# Altium integrated library Maxim Sensors.IntLib: 1171 symbols (part 38 of 61)
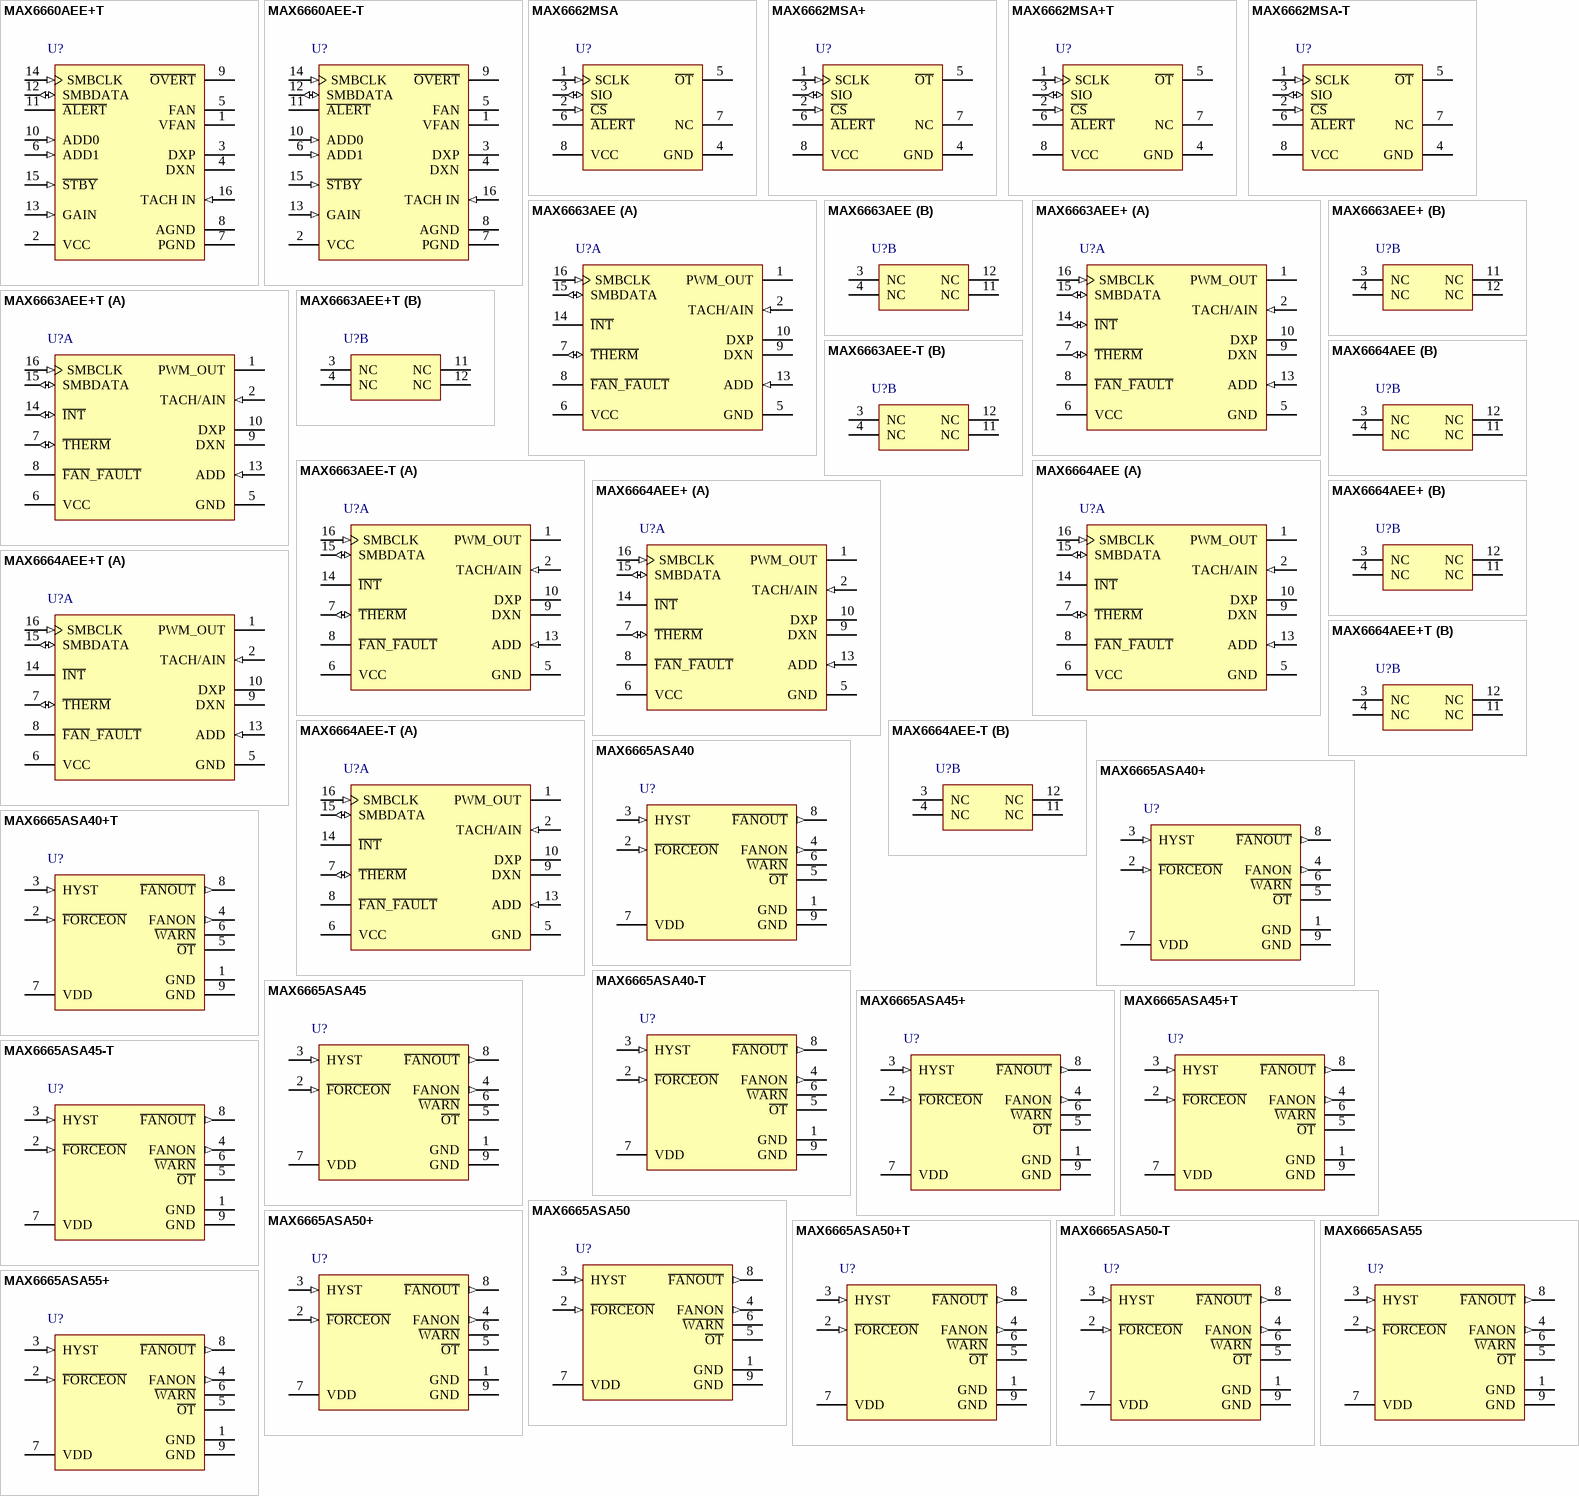
[diagram p70: symbols MAX6660AEE+T to MAX6665ASA55+]

## MAX6665ASA40+T
designator U?
Fan Controller / Driver with Factory-Programmed Temperature Thresholds, -40 to 125 degC, 8-Pin SOIC (S8E+14), Pb-Free, Tape and Reel; Generic Part Number: MAX6665; PartNumber: MAX6665ASA40+T; Fan Cntrl.: Linear; Fan Controller Functions: Temperature Switch/Temperature Comparator; Interface: Logic; DatasheetVersion: Rev. 0; PackageVersion: Rev. E, 01/2009; PackageReference: S8E+14; PackageDescription: 8-Pin Small-Outline IC, Narrow, Body 3.9 x 4.89 mm, Exposed Pad 2.945 x 2.26 mm, Pitch 1.27 mm; Supplier 1: Digi-Key; Supplier Part Number 1: MAX6665ASA40+T-ND; Supplier 2: Mouser; Supplier Part Number 2: 700-MAX6665ASA40T; Packing: Tape and Reel; Mounting Technology: Surface Mount; Code_JEDEC: MS-012; ComponentLink1Description: Manufacturer URL; ComponentLink1URL: http://www.maximintegrated.com/; ComponentLink2Description: Datasheet; ComponentLink2URL: http://datasheets.maximintegrated.com/en/ds/MAX6665.pdf; ComponentLink3Description: Package Specification; ComponentLink3URL: http://pdfserv.maximintegrated.com/package_dwgs/21-0111.PDF
footprint MAXM-S8E+14_N (SOIC, 8-Leads, Body 4.89x3.9mm, Pitch 1.27mm, Thermal Pad 2.945x2.26mm, IPC Medium Density)
footprint MAXM-S8E+14_L (SOIC, 8-Leads, Body 4.89x3.9mm, Pitch 1.27mm, Thermal Pad 2.945x2.26mm, IPC High Density)
footprint MAXM-S8E+14_M (SOIC, 8-Leads, Body 4.89x3.9mm, Pitch 1.27mm, Thermal Pad 2.945x2.26mm, IPC Low Density)
pins: 1 GND (power) "Ground", 2 ~{FORCEON} (in) "Force Fan On Input. Set F\O\R\C\E\O\N\ low to force the fan switch on. Set F\O\R\C\E\O\N\ high for normal operation.", 3 HYST (in) "Three-State Hysteresis Input. Connect HYST to VDD for 8degC, GND for 4degC, and leave HYST unconnected for 1degreesC hysteresis.", 4 FANON (out) "Fan-On Indicator Output. Push-pull output. FANON is high when the fan switch is on. FANON is low when the fan switch is off.", 5 ~{OT} (oc) "Overtemperature Output. Active-low when the temperature is 30degC above the fan threshold. Open-drain output, requires resistive pullup.", 6 ~{WARN} (oc) "Overtemperature Warning Output. Active-low when the temperature is 15degC above the fan threshold. Open-drain output, requires resistive pullup.", 7 VDD (power) "Supply Voltage. Bypass with a 1uF capacitor to GND as close to VDD pin as possible.", 8 ~{FANOUT} (out) "Fan-Switch (Driver) Output. Connect to the low side of a fan.", 9 GND (power) "Ground"

## MAX6665ASA40-T
designator U?
Fan Controller / Driver with Factory-Programmed Temperature Thresholds, -40 to 125 degC, 8-Pin SOIC (S8E-14), Tape and Reel; Generic Part Number: MAX6665; PartNumber: MAX6665ASA40-T; Fan Cntrl.: Linear; Fan Controller Functions: Temperature Switch/Temperature Comparator; Interface: Logic; DatasheetVersion: Rev. 0; PackageVersion: Rev. E, 01/2009; PackageReference: S8E-14; PackageDescription: 8-Pin Small-Outline IC, Narrow, Body 3.9 x 4.89 mm, Exposed Pad 2.945 x 2.26 mm, Pitch 1.27 mm; Supplier 1: Mouser; Supplier Part Number 1: N/A; Packing: Tape and Reel; Mounting Technology: Surface Mount; Code_JEDEC: MS-012; ComponentLink1Description: Manufacturer URL; ComponentLink1URL: http://www.maximintegrated.com/; ComponentLink2Description: Datasheet; ComponentLink2URL: http://datasheets.maximintegrated.com/en/ds/MAX6665.pdf; ComponentLink3Description: Package Specification; ComponentLink3URL: http://pdfserv.maximintegrated.com/package_dwgs/21-0111.PDF
footprint MAXM-S8E-14_N (SOIC, 8-Leads, Body 4.89x3.9mm, Pitch 1.27mm, Thermal Pad 2.945x2.26mm, IPC Medium Density)
footprint MAXM-S8E-14_L (SOIC, 8-Leads, Body 4.89x3.9mm, Pitch 1.27mm, Thermal Pad 2.945x2.26mm, IPC High Density)
footprint MAXM-S8E-14_M (SOIC, 8-Leads, Body 4.89x3.9mm, Pitch 1.27mm, Thermal Pad 2.945x2.26mm, IPC Low Density)
pins: 1 GND (power) "Ground", 2 ~{FORCEON} (in) "Force Fan On Input. Set F\O\R\C\E\O\N\ low to force the fan switch on. Set F\O\R\C\E\O\N\ high for normal operation.", 3 HYST (in) "Three-State Hysteresis Input. Connect HYST to VDD for 8degC, GND for 4degC, and leave HYST unconnected for 1degreesC hysteresis.", 4 FANON (out) "Fan-On Indicator Output. Push-pull output. FANON is high when the fan switch is on. FANON is low when the fan switch is off.", 5 ~{OT} (oc) "Overtemperature Output. Active-low when the temperature is 30degC above the fan threshold. Open-drain output, requires resistive pullup.", 6 ~{WARN} (oc) "Overtemperature Warning Output. Active-low when the temperature is 15degC above the fan threshold. Open-drain output, requires resistive pullup.", 7 VDD (power) "Supply Voltage. Bypass with a 1uF capacitor to GND as close to VDD pin as possible.", 8 ~{FANOUT} (out) "Fan-Switch (Driver) Output. Connect to the low side of a fan.", 9 GND (power) "Ground"

## MAX6665ASA45
designator U?
Fan Controller / Driver with Factory-Programmed Temperature Thresholds, -40 to 125 degC, 8-Pin SOIC (S8E-14); Generic Part Number: MAX6665; PartNumber: MAX6665ASA45; Fan Cntrl.: Linear; Fan Controller Functions: Temperature Switch/Temperature Comparator; Interface: Logic; DatasheetVersion: Rev. 0; PackageVersion: Rev. E, 01/2009; PackageReference: S8E-14; PackageDescription: 8-Pin Small-Outline IC, Narrow, Body 3.9 x 4.89 mm, Exposed Pad 2.945 x 2.26 mm, Pitch 1.27 mm; Supplier 1: Mouser; Supplier Part Number 1: N/A; Mounting Technology: Surface Mount; Code_JEDEC: MS-012; ComponentLink1Description: Manufacturer URL; ComponentLink1URL: http://www.maximintegrated.com/; ComponentLink2Description: Datasheet; ComponentLink2URL: http://datasheets.maximintegrated.com/en/ds/MAX6665.pdf; ComponentLink3Description: Package Specification; ComponentLink3URL: http://pdfserv.maximintegrated.com/package_dwgs/21-0111.PDF
footprint MAXM-S8E-14_N (SOIC, 8-Leads, Body 4.89x3.9mm, Pitch 1.27mm, Thermal Pad 2.945x2.26mm, IPC Medium Density)
footprint MAXM-S8E-14_L (SOIC, 8-Leads, Body 4.89x3.9mm, Pitch 1.27mm, Thermal Pad 2.945x2.26mm, IPC High Density)
footprint MAXM-S8E-14_M (SOIC, 8-Leads, Body 4.89x3.9mm, Pitch 1.27mm, Thermal Pad 2.945x2.26mm, IPC Low Density)
pins: 1 GND (power) "Ground", 2 ~{FORCEON} (in) "Force Fan On Input. Set F\O\R\C\E\O\N\ low to force the fan switch on. Set F\O\R\C\E\O\N\ high for normal operation.", 3 HYST (in) "Three-State Hysteresis Input. Connect HYST to VDD for 8degC, GND for 4degC, and leave HYST unconnected for 1degreesC hysteresis.", 4 FANON (out) "Fan-On Indicator Output. Push-pull output. FANON is high when the fan switch is on. FANON is low when the fan switch is off.", 5 ~{OT} (oc) "Overtemperature Output. Active-low when the temperature is 30degC above the fan threshold. Open-drain output, requires resistive pullup.", 6 ~{WARN} (oc) "Overtemperature Warning Output. Active-low when the temperature is 15degC above the fan threshold. Open-drain output, requires resistive pullup.", 7 VDD (power) "Supply Voltage. Bypass with a 1uF capacitor to GND as close to VDD pin as possible.", 8 ~{FANOUT} (out) "Fan-Switch (Driver) Output. Connect to the low side of a fan.", 9 GND (power) "Ground"

## MAX6665ASA45+
designator U?
Fan Controller / Driver with Factory-Programmed Temperature Thresholds, -40 to 125 degC, 8-Pin SOIC (S8E+14), Pb-Free; Generic Part Number: MAX6665; PartNumber: MAX6665ASA45+; Fan Cntrl.: Linear; Fan Controller Functions: Temperature Switch/Temperature Comparator; Interface: Logic; DatasheetVersion: Rev. 0; PackageVersion: Rev. E, 01/2009; PackageReference: S8E+14; PackageDescription: 8-Pin Small-Outline IC, Narrow, Body 3.9 x 4.89 mm, Exposed Pad 2.945 x 2.26 mm, Pitch 1.27 mm; Supplier 1: Digi-Key; Supplier Part Number 1: MAX6665ASA45+-ND; Supplier 2: Mouser; Supplier Part Number 2: 700-MAX6665ASA45; Mounting Technology: Surface Mount; Code_JEDEC: MS-012; ComponentLink1Description: Manufacturer URL; ComponentLink1URL: http://www.maximintegrated.com/; ComponentLink2Description: Datasheet; ComponentLink2URL: http://datasheets.maximintegrated.com/en/ds/MAX6665.pdf; ComponentLink3Description: Package Specification; ComponentLink3URL: http://pdfserv.maximintegrated.com/package_dwgs/21-0111.PDF
footprint MAXM-S8E+14_N (SOIC, 8-Leads, Body 4.89x3.9mm, Pitch 1.27mm, Thermal Pad 2.945x2.26mm, IPC Medium Density)
footprint MAXM-S8E+14_L (SOIC, 8-Leads, Body 4.89x3.9mm, Pitch 1.27mm, Thermal Pad 2.945x2.26mm, IPC High Density)
footprint MAXM-S8E+14_M (SOIC, 8-Leads, Body 4.89x3.9mm, Pitch 1.27mm, Thermal Pad 2.945x2.26mm, IPC Low Density)
pins: 1 GND (power) "Ground", 2 ~{FORCEON} (in) "Force Fan On Input. Set F\O\R\C\E\O\N\ low to force the fan switch on. Set F\O\R\C\E\O\N\ high for normal operation.", 3 HYST (in) "Three-State Hysteresis Input. Connect HYST to VDD for 8degC, GND for 4degC, and leave HYST unconnected for 1degreesC hysteresis.", 4 FANON (out) "Fan-On Indicator Output. Push-pull output. FANON is high when the fan switch is on. FANON is low when the fan switch is off.", 5 ~{OT} (oc) "Overtemperature Output. Active-low when the temperature is 30degC above the fan threshold. Open-drain output, requires resistive pullup.", 6 ~{WARN} (oc) "Overtemperature Warning Output. Active-low when the temperature is 15degC above the fan threshold. Open-drain output, requires resistive pullup.", 7 VDD (power) "Supply Voltage. Bypass with a 1uF capacitor to GND as close to VDD pin as possible.", 8 ~{FANOUT} (out) "Fan-Switch (Driver) Output. Connect to the low side of a fan.", 9 GND (power) "Ground"

## MAX6665ASA45+T
designator U?
Fan Controller / Driver with Factory-Programmed Temperature Thresholds, -40 to 125 degC, 8-Pin SOIC (S8E+14), Pb-Free, Tape and Reel; Generic Part Number: MAX6665; PartNumber: MAX6665ASA45+T; Fan Cntrl.: Linear; Fan Controller Functions: Temperature Switch/Temperature Comparator; Interface: Logic; DatasheetVersion: Rev. 0; PackageVersion: Rev. E, 01/2009; PackageReference: S8E+14; PackageDescription: 8-Pin Small-Outline IC, Narrow, Body 3.9 x 4.89 mm, Exposed Pad 2.945 x 2.26 mm, Pitch 1.27 mm; Supplier 1: Digi-Key; Supplier Part Number 1: MAX6665ASA45+TTR-ND; Supplier 2: Digi-Key; Supplier Part Number 2: MAX6665ASA45+TCT-ND; Supplier 3: Digi-Key; Supplier Part Number 3: MAX6665ASA45+TDKR-ND; Supplier 4: Mouser; Supplier Part Number 4: 700-MAX6665ASA45T; Packing: Tape and Reel; Mounting Technology: Surface Mount; Code_JEDEC: MS-012; ComponentLink1Description: Manufacturer URL; ComponentLink1URL: http://www.maximintegrated.com/; ComponentLink2Description: Datasheet; ComponentLink2URL: http://datasheets.maximintegrated.com/en/ds/MAX6665.pdf; ComponentLink3Description: Package Specification; ComponentLink3URL: http://pdfserv.maximintegrated.com/package_dwgs/21-0111.PDF
footprint MAXM-S8E+14_N (SOIC, 8-Leads, Body 4.89x3.9mm, Pitch 1.27mm, Thermal Pad 2.945x2.26mm, IPC Medium Density)
footprint MAXM-S8E+14_L (SOIC, 8-Leads, Body 4.89x3.9mm, Pitch 1.27mm, Thermal Pad 2.945x2.26mm, IPC High Density)
footprint MAXM-S8E+14_M (SOIC, 8-Leads, Body 4.89x3.9mm, Pitch 1.27mm, Thermal Pad 2.945x2.26mm, IPC Low Density)
pins: 1 GND (power) "Ground", 2 ~{FORCEON} (in) "Force Fan On Input. Set F\O\R\C\E\O\N\ low to force the fan switch on. Set F\O\R\C\E\O\N\ high for normal operation.", 3 HYST (in) "Three-State Hysteresis Input. Connect HYST to VDD for 8degC, GND for 4degC, and leave HYST unconnected for 1degreesC hysteresis.", 4 FANON (out) "Fan-On Indicator Output. Push-pull output. FANON is high when the fan switch is on. FANON is low when the fan switch is off.", 5 ~{OT} (oc) "Overtemperature Output. Active-low when the temperature is 30degC above the fan threshold. Open-drain output, requires resistive pullup.", 6 ~{WARN} (oc) "Overtemperature Warning Output. Active-low when the temperature is 15degC above the fan threshold. Open-drain output, requires resistive pullup.", 7 VDD (power) "Supply Voltage. Bypass with a 1uF capacitor to GND as close to VDD pin as possible.", 8 ~{FANOUT} (out) "Fan-Switch (Driver) Output. Connect to the low side of a fan.", 9 GND (power) "Ground"

## MAX6665ASA45-T
designator U?
Fan Controller / Driver with Factory-Programmed Temperature Thresholds, -40 to 125 degC, 8-Pin SOIC (S8E-14), Tape and Reel; Generic Part Number: MAX6665; PartNumber: MAX6665ASA45-T; Fan Cntrl.: Linear; Fan Controller Functions: Temperature Switch/Temperature Comparator; Interface: Logic; DatasheetVersion: Rev. 0; PackageVersion: Rev. E, 01/2009; PackageReference: S8E-14; PackageDescription: 8-Pin Small-Outline IC, Narrow, Body 3.9 x 4.89 mm, Exposed Pad 2.945 x 2.26 mm, Pitch 1.27 mm; Supplier 1: Mouser; Supplier Part Number 1: N/A; Packing: Tape and Reel; Mounting Technology: Surface Mount; Code_JEDEC: MS-012; ComponentLink1Description: Manufacturer URL; ComponentLink1URL: http://www.maximintegrated.com/; ComponentLink2Description: Datasheet; ComponentLink2URL: http://datasheets.maximintegrated.com/en/ds/MAX6665.pdf; ComponentLink3Description: Package Specification; ComponentLink3URL: http://pdfserv.maximintegrated.com/package_dwgs/21-0111.PDF
footprint MAXM-S8E-14_N (SOIC, 8-Leads, Body 4.89x3.9mm, Pitch 1.27mm, Thermal Pad 2.945x2.26mm, IPC Medium Density)
footprint MAXM-S8E-14_L (SOIC, 8-Leads, Body 4.89x3.9mm, Pitch 1.27mm, Thermal Pad 2.945x2.26mm, IPC High Density)
footprint MAXM-S8E-14_M (SOIC, 8-Leads, Body 4.89x3.9mm, Pitch 1.27mm, Thermal Pad 2.945x2.26mm, IPC Low Density)
pins: 1 GND (power) "Ground", 2 ~{FORCEON} (in) "Force Fan On Input. Set F\O\R\C\E\O\N\ low to force the fan switch on. Set F\O\R\C\E\O\N\ high for normal operation.", 3 HYST (in) "Three-State Hysteresis Input. Connect HYST to VDD for 8degC, GND for 4degC, and leave HYST unconnected for 1degreesC hysteresis.", 4 FANON (out) "Fan-On Indicator Output. Push-pull output. FANON is high when the fan switch is on. FANON is low when the fan switch is off.", 5 ~{OT} (oc) "Overtemperature Output. Active-low when the temperature is 30degC above the fan threshold. Open-drain output, requires resistive pullup.", 6 ~{WARN} (oc) "Overtemperature Warning Output. Active-low when the temperature is 15degC above the fan threshold. Open-drain output, requires resistive pullup.", 7 VDD (power) "Supply Voltage. Bypass with a 1uF capacitor to GND as close to VDD pin as possible.", 8 ~{FANOUT} (out) "Fan-Switch (Driver) Output. Connect to the low side of a fan.", 9 GND (power) "Ground"

## MAX6665ASA50
designator U?
Fan Controller / Driver with Factory-Programmed Temperature Thresholds, -40 to 125 degC, 8-Pin SOIC (S8E-14); Generic Part Number: MAX6665; PartNumber: MAX6665ASA50; Fan Cntrl.: Linear; Fan Controller Functions: Temperature Switch/Temperature Comparator; Interface: Logic; DatasheetVersion: Rev. 0; PackageVersion: Rev. E, 01/2009; PackageReference: S8E-14; PackageDescription: 8-Pin Small-Outline IC, Narrow, Body 3.9 x 4.89 mm, Exposed Pad 2.945 x 2.26 mm, Pitch 1.27 mm; Supplier 1: Mouser; Supplier Part Number 1: N/A; Mounting Technology: Surface Mount; Code_JEDEC: MS-012; ComponentLink1Description: Manufacturer URL; ComponentLink1URL: http://www.maximintegrated.com/; ComponentLink2Description: Datasheet; ComponentLink2URL: http://datasheets.maximintegrated.com/en/ds/MAX6665.pdf; ComponentLink3Description: Package Specification; ComponentLink3URL: http://pdfserv.maximintegrated.com/package_dwgs/21-0111.PDF
footprint MAXM-S8E-14_N (SOIC, 8-Leads, Body 4.89x3.9mm, Pitch 1.27mm, Thermal Pad 2.945x2.26mm, IPC Medium Density)
footprint MAXM-S8E-14_L (SOIC, 8-Leads, Body 4.89x3.9mm, Pitch 1.27mm, Thermal Pad 2.945x2.26mm, IPC High Density)
footprint MAXM-S8E-14_M (SOIC, 8-Leads, Body 4.89x3.9mm, Pitch 1.27mm, Thermal Pad 2.945x2.26mm, IPC Low Density)
pins: 1 GND (power) "Ground", 2 ~{FORCEON} (in) "Force Fan On Input. Set F\O\R\C\E\O\N\ low to force the fan switch on. Set F\O\R\C\E\O\N\ high for normal operation.", 3 HYST (in) "Three-State Hysteresis Input. Connect HYST to VDD for 8degC, GND for 4degC, and leave HYST unconnected for 1degreesC hysteresis.", 4 FANON (out) "Fan-On Indicator Output. Push-pull output. FANON is high when the fan switch is on. FANON is low when the fan switch is off.", 5 ~{OT} (oc) "Overtemperature Output. Active-low when the temperature is 30degC above the fan threshold. Open-drain output, requires resistive pullup.", 6 ~{WARN} (oc) "Overtemperature Warning Output. Active-low when the temperature is 15degC above the fan threshold. Open-drain output, requires resistive pullup.", 7 VDD (power) "Supply Voltage. Bypass with a 1uF capacitor to GND as close to VDD pin as possible.", 8 ~{FANOUT} (out) "Fan-Switch (Driver) Output. Connect to the low side of a fan.", 9 GND (power) "Ground"

## MAX6665ASA50+
designator U?
Fan Controller / Driver with Factory-Programmed Temperature Thresholds, -40 to 125 degC, 8-Pin SOIC (S8E+14), Pb-Free; Generic Part Number: MAX6665; PartNumber: MAX6665ASA50+; Fan Cntrl.: Linear; Fan Controller Functions: Temperature Switch/Temperature Comparator; Interface: Logic; DatasheetVersion: Rev. 0; PackageVersion: Rev. E, 01/2009; PackageReference: S8E+14; PackageDescription: 8-Pin Small-Outline IC, Narrow, Body 3.9 x 4.89 mm, Exposed Pad 2.945 x 2.26 mm, Pitch 1.27 mm; Supplier 1: Digi-Key; Supplier Part Number 1: MAX6665ASA50+-ND; Supplier 2: Mouser; Supplier Part Number 2: 700-MAX6665ASA50; Mounting Technology: Surface Mount; Code_JEDEC: MS-012; ComponentLink1Description: Manufacturer URL; ComponentLink1URL: http://www.maximintegrated.com/; ComponentLink2Description: Datasheet; ComponentLink2URL: http://datasheets.maximintegrated.com/en/ds/MAX6665.pdf; ComponentLink3Description: Package Specification; ComponentLink3URL: http://pdfserv.maximintegrated.com/package_dwgs/21-0111.PDF
footprint MAXM-S8E+14_N (SOIC, 8-Leads, Body 4.89x3.9mm, Pitch 1.27mm, Thermal Pad 2.945x2.26mm, IPC Medium Density)
footprint MAXM-S8E+14_L (SOIC, 8-Leads, Body 4.89x3.9mm, Pitch 1.27mm, Thermal Pad 2.945x2.26mm, IPC High Density)
footprint MAXM-S8E+14_M (SOIC, 8-Leads, Body 4.89x3.9mm, Pitch 1.27mm, Thermal Pad 2.945x2.26mm, IPC Low Density)
pins: 1 GND (power) "Ground", 2 ~{FORCEON} (in) "Force Fan On Input. Set F\O\R\C\E\O\N\ low to force the fan switch on. Set F\O\R\C\E\O\N\ high for normal operation.", 3 HYST (in) "Three-State Hysteresis Input. Connect HYST to VDD for 8degC, GND for 4degC, and leave HYST unconnected for 1degreesC hysteresis.", 4 FANON (out) "Fan-On Indicator Output. Push-pull output. FANON is high when the fan switch is on. FANON is low when the fan switch is off.", 5 ~{OT} (oc) "Overtemperature Output. Active-low when the temperature is 30degC above the fan threshold. Open-drain output, requires resistive pullup.", 6 ~{WARN} (oc) "Overtemperature Warning Output. Active-low when the temperature is 15degC above the fan threshold. Open-drain output, requires resistive pullup.", 7 VDD (power) "Supply Voltage. Bypass with a 1uF capacitor to GND as close to VDD pin as possible.", 8 ~{FANOUT} (out) "Fan-Switch (Driver) Output. Connect to the low side of a fan.", 9 GND (power) "Ground"

## MAX6665ASA50+T
designator U?
Fan Controller / Driver with Factory-Programmed Temperature Thresholds, -40 to 125 degC, 8-Pin SOIC (S8E+14), Pb-Free, Tape and Reel; Generic Part Number: MAX6665; PartNumber: MAX6665ASA50+T; Fan Cntrl.: Linear; Fan Controller Functions: Temperature Switch/Temperature Comparator; Interface: Logic; DatasheetVersion: Rev. 0; PackageVersion: Rev. E, 01/2009; PackageReference: S8E+14; PackageDescription: 8-Pin Small-Outline IC, Narrow, Body 3.9 x 4.89 mm, Exposed Pad 2.945 x 2.26 mm, Pitch 1.27 mm; Supplier 1: Digi-Key; Supplier Part Number 1: MAX6665ASA50+T-ND; Supplier 2: Mouser; Supplier Part Number 2: 700-MAX6665ASA50T; Packing: Tape and Reel; Mounting Technology: Surface Mount; Code_JEDEC: MS-012; ComponentLink1Description: Manufacturer URL; ComponentLink1URL: http://www.maximintegrated.com/; ComponentLink2Description: Datasheet; ComponentLink2URL: http://datasheets.maximintegrated.com/en/ds/MAX6665.pdf; ComponentLink3Description: Package Specification; ComponentLink3URL: http://pdfserv.maximintegrated.com/package_dwgs/21-0111.PDF
footprint MAXM-S8E+14_N (SOIC, 8-Leads, Body 4.89x3.9mm, Pitch 1.27mm, Thermal Pad 2.945x2.26mm, IPC Medium Density)
footprint MAXM-S8E+14_L (SOIC, 8-Leads, Body 4.89x3.9mm, Pitch 1.27mm, Thermal Pad 2.945x2.26mm, IPC High Density)
footprint MAXM-S8E+14_M (SOIC, 8-Leads, Body 4.89x3.9mm, Pitch 1.27mm, Thermal Pad 2.945x2.26mm, IPC Low Density)
pins: 1 GND (power) "Ground", 2 ~{FORCEON} (in) "Force Fan On Input. Set F\O\R\C\E\O\N\ low to force the fan switch on. Set F\O\R\C\E\O\N\ high for normal operation.", 3 HYST (in) "Three-State Hysteresis Input. Connect HYST to VDD for 8degC, GND for 4degC, and leave HYST unconnected for 1degreesC hysteresis.", 4 FANON (out) "Fan-On Indicator Output. Push-pull output. FANON is high when the fan switch is on. FANON is low when the fan switch is off.", 5 ~{OT} (oc) "Overtemperature Output. Active-low when the temperature is 30degC above the fan threshold. Open-drain output, requires resistive pullup.", 6 ~{WARN} (oc) "Overtemperature Warning Output. Active-low when the temperature is 15degC above the fan threshold. Open-drain output, requires resistive pullup.", 7 VDD (power) "Supply Voltage. Bypass with a 1uF capacitor to GND as close to VDD pin as possible.", 8 ~{FANOUT} (out) "Fan-Switch (Driver) Output. Connect to the low side of a fan.", 9 GND (power) "Ground"

## MAX6665ASA50-T
designator U?
Fan Controller / Driver with Factory-Programmed Temperature Thresholds, -40 to 125 degC, 8-Pin SOIC (S8E-14), Tape and Reel; Generic Part Number: MAX6665; PartNumber: MAX6665ASA50-T; Fan Cntrl.: Linear; Fan Controller Functions: Temperature Switch/Temperature Comparator; Interface: Logic; DatasheetVersion: Rev. 0; PackageVersion: Rev. E, 01/2009; PackageReference: S8E-14; PackageDescription: 8-Pin Small-Outline IC, Narrow, Body 3.9 x 4.89 mm, Exposed Pad 2.945 x 2.26 mm, Pitch 1.27 mm; Supplier 1: Mouser; Supplier Part Number 1: N/A; Packing: Tape and Reel; Mounting Technology: Surface Mount; Code_JEDEC: MS-012; ComponentLink1Description: Manufacturer URL; ComponentLink1URL: http://www.maximintegrated.com/; ComponentLink2Description: Datasheet; ComponentLink2URL: http://datasheets.maximintegrated.com/en/ds/MAX6665.pdf; ComponentLink3Description: Package Specification; ComponentLink3URL: http://pdfserv.maximintegrated.com/package_dwgs/21-0111.PDF
footprint MAXM-S8E-14_N (SOIC, 8-Leads, Body 4.89x3.9mm, Pitch 1.27mm, Thermal Pad 2.945x2.26mm, IPC Medium Density)
footprint MAXM-S8E-14_L (SOIC, 8-Leads, Body 4.89x3.9mm, Pitch 1.27mm, Thermal Pad 2.945x2.26mm, IPC High Density)
footprint MAXM-S8E-14_M (SOIC, 8-Leads, Body 4.89x3.9mm, Pitch 1.27mm, Thermal Pad 2.945x2.26mm, IPC Low Density)
pins: 1 GND (power) "Ground", 2 ~{FORCEON} (in) "Force Fan On Input. Set F\O\R\C\E\O\N\ low to force the fan switch on. Set F\O\R\C\E\O\N\ high for normal operation.", 3 HYST (in) "Three-State Hysteresis Input. Connect HYST to VDD for 8degC, GND for 4degC, and leave HYST unconnected for 1degreesC hysteresis.", 4 FANON (out) "Fan-On Indicator Output. Push-pull output. FANON is high when the fan switch is on. FANON is low when the fan switch is off.", 5 ~{OT} (oc) "Overtemperature Output. Active-low when the temperature is 30degC above the fan threshold. Open-drain output, requires resistive pullup.", 6 ~{WARN} (oc) "Overtemperature Warning Output. Active-low when the temperature is 15degC above the fan threshold. Open-drain output, requires resistive pullup.", 7 VDD (power) "Supply Voltage. Bypass with a 1uF capacitor to GND as close to VDD pin as possible.", 8 ~{FANOUT} (out) "Fan-Switch (Driver) Output. Connect to the low side of a fan.", 9 GND (power) "Ground"

## MAX6665ASA55
designator U?
Fan Controller / Driver with Factory-Programmed Temperature Thresholds, -40 to 125 degC, 8-Pin SOIC (S8E-14); Generic Part Number: MAX6665; PartNumber: MAX6665ASA55; Fan Cntrl.: Linear; Fan Controller Functions: Temperature Switch/Temperature Comparator; Interface: Logic; DatasheetVersion: Rev. 0; PackageVersion: Rev. E, 01/2009; PackageReference: S8E-14; PackageDescription: 8-Pin Small-Outline IC, Narrow, Body 3.9 x 4.89 mm, Exposed Pad 2.945 x 2.26 mm, Pitch 1.27 mm; Supplier 1: Mouser; Supplier Part Number 1: N/A; Mounting Technology: Surface Mount; Code_JEDEC: MS-012; ComponentLink1Description: Manufacturer URL; ComponentLink1URL: http://www.maximintegrated.com/; ComponentLink2Description: Datasheet; ComponentLink2URL: http://datasheets.maximintegrated.com/en/ds/MAX6665.pdf; ComponentLink3Description: Package Specification; ComponentLink3URL: http://pdfserv.maximintegrated.com/package_dwgs/21-0111.PDF
footprint MAXM-S8E-14_N (SOIC, 8-Leads, Body 4.89x3.9mm, Pitch 1.27mm, Thermal Pad 2.945x2.26mm, IPC Medium Density)
footprint MAXM-S8E-14_L (SOIC, 8-Leads, Body 4.89x3.9mm, Pitch 1.27mm, Thermal Pad 2.945x2.26mm, IPC High Density)
footprint MAXM-S8E-14_M (SOIC, 8-Leads, Body 4.89x3.9mm, Pitch 1.27mm, Thermal Pad 2.945x2.26mm, IPC Low Density)
pins: 1 GND (power) "Ground", 2 ~{FORCEON} (in) "Force Fan On Input. Set F\O\R\C\E\O\N\ low to force the fan switch on. Set F\O\R\C\E\O\N\ high for normal operation.", 3 HYST (in) "Three-State Hysteresis Input. Connect HYST to VDD for 8degC, GND for 4degC, and leave HYST unconnected for 1degreesC hysteresis.", 4 FANON (out) "Fan-On Indicator Output. Push-pull output. FANON is high when the fan switch is on. FANON is low when the fan switch is off.", 5 ~{OT} (oc) "Overtemperature Output. Active-low when the temperature is 30degC above the fan threshold. Open-drain output, requires resistive pullup.", 6 ~{WARN} (oc) "Overtemperature Warning Output. Active-low when the temperature is 15degC above the fan threshold. Open-drain output, requires resistive pullup.", 7 VDD (power) "Supply Voltage. Bypass with a 1uF capacitor to GND as close to VDD pin as possible.", 8 ~{FANOUT} (out) "Fan-Switch (Driver) Output. Connect to the low side of a fan.", 9 GND (power) "Ground"

## MAX6665ASA55+
designator U?
Fan Controller / Driver with Factory-Programmed Temperature Thresholds, -40 to 125 degC, 8-Pin SOIC (S8E+14), Pb-Free; Generic Part Number: MAX6665; PartNumber: MAX6665ASA55+; Fan Cntrl.: Linear; Fan Controller Functions: Temperature Switch/Temperature Comparator; Interface: Logic; DatasheetVersion: Rev. 0; PackageVersion: Rev. E, 01/2009; PackageReference: S8E+14; PackageDescription: 8-Pin Small-Outline IC, Narrow, Body 3.9 x 4.89 mm, Exposed Pad 2.945 x 2.26 mm, Pitch 1.27 mm; Supplier 1: Digi-Key; Supplier Part Number 1: MAX6665ASA55+-ND; Supplier 2: Mouser; Supplier Part Number 2: 700-MAX6665ASA55; Mounting Technology: Surface Mount; Code_JEDEC: MS-012; ComponentLink1Description: Manufacturer URL; ComponentLink1URL: http://www.maximintegrated.com/; ComponentLink2Description: Datasheet; ComponentLink2URL: http://datasheets.maximintegrated.com/en/ds/MAX6665.pdf; ComponentLink3Description: Package Specification; ComponentLink3URL: http://pdfserv.maximintegrated.com/package_dwgs/21-0111.PDF
footprint MAXM-S8E+14_N (SOIC, 8-Leads, Body 4.89x3.9mm, Pitch 1.27mm, Thermal Pad 2.945x2.26mm, IPC Medium Density)
footprint MAXM-S8E+14_L (SOIC, 8-Leads, Body 4.89x3.9mm, Pitch 1.27mm, Thermal Pad 2.945x2.26mm, IPC High Density)
footprint MAXM-S8E+14_M (SOIC, 8-Leads, Body 4.89x3.9mm, Pitch 1.27mm, Thermal Pad 2.945x2.26mm, IPC Low Density)
pins: 1 GND (power) "Ground", 2 ~{FORCEON} (in) "Force Fan On Input. Set F\O\R\C\E\O\N\ low to force the fan switch on. Set F\O\R\C\E\O\N\ high for normal operation.", 3 HYST (in) "Three-State Hysteresis Input. Connect HYST to VDD for 8degC, GND for 4degC, and leave HYST unconnected for 1degreesC hysteresis.", 4 FANON (out) "Fan-On Indicator Output. Push-pull output. FANON is high when the fan switch is on. FANON is low when the fan switch is off.", 5 ~{OT} (oc) "Overtemperature Output. Active-low when the temperature is 30degC above the fan threshold. Open-drain output, requires resistive pullup.", 6 ~{WARN} (oc) "Overtemperature Warning Output. Active-low when the temperature is 15degC above the fan threshold. Open-drain output, requires resistive pullup.", 7 VDD (power) "Supply Voltage. Bypass with a 1uF capacitor to GND as close to VDD pin as possible.", 8 ~{FANOUT} (out) "Fan-Switch (Driver) Output. Connect to the low side of a fan.", 9 GND (power) "Ground"

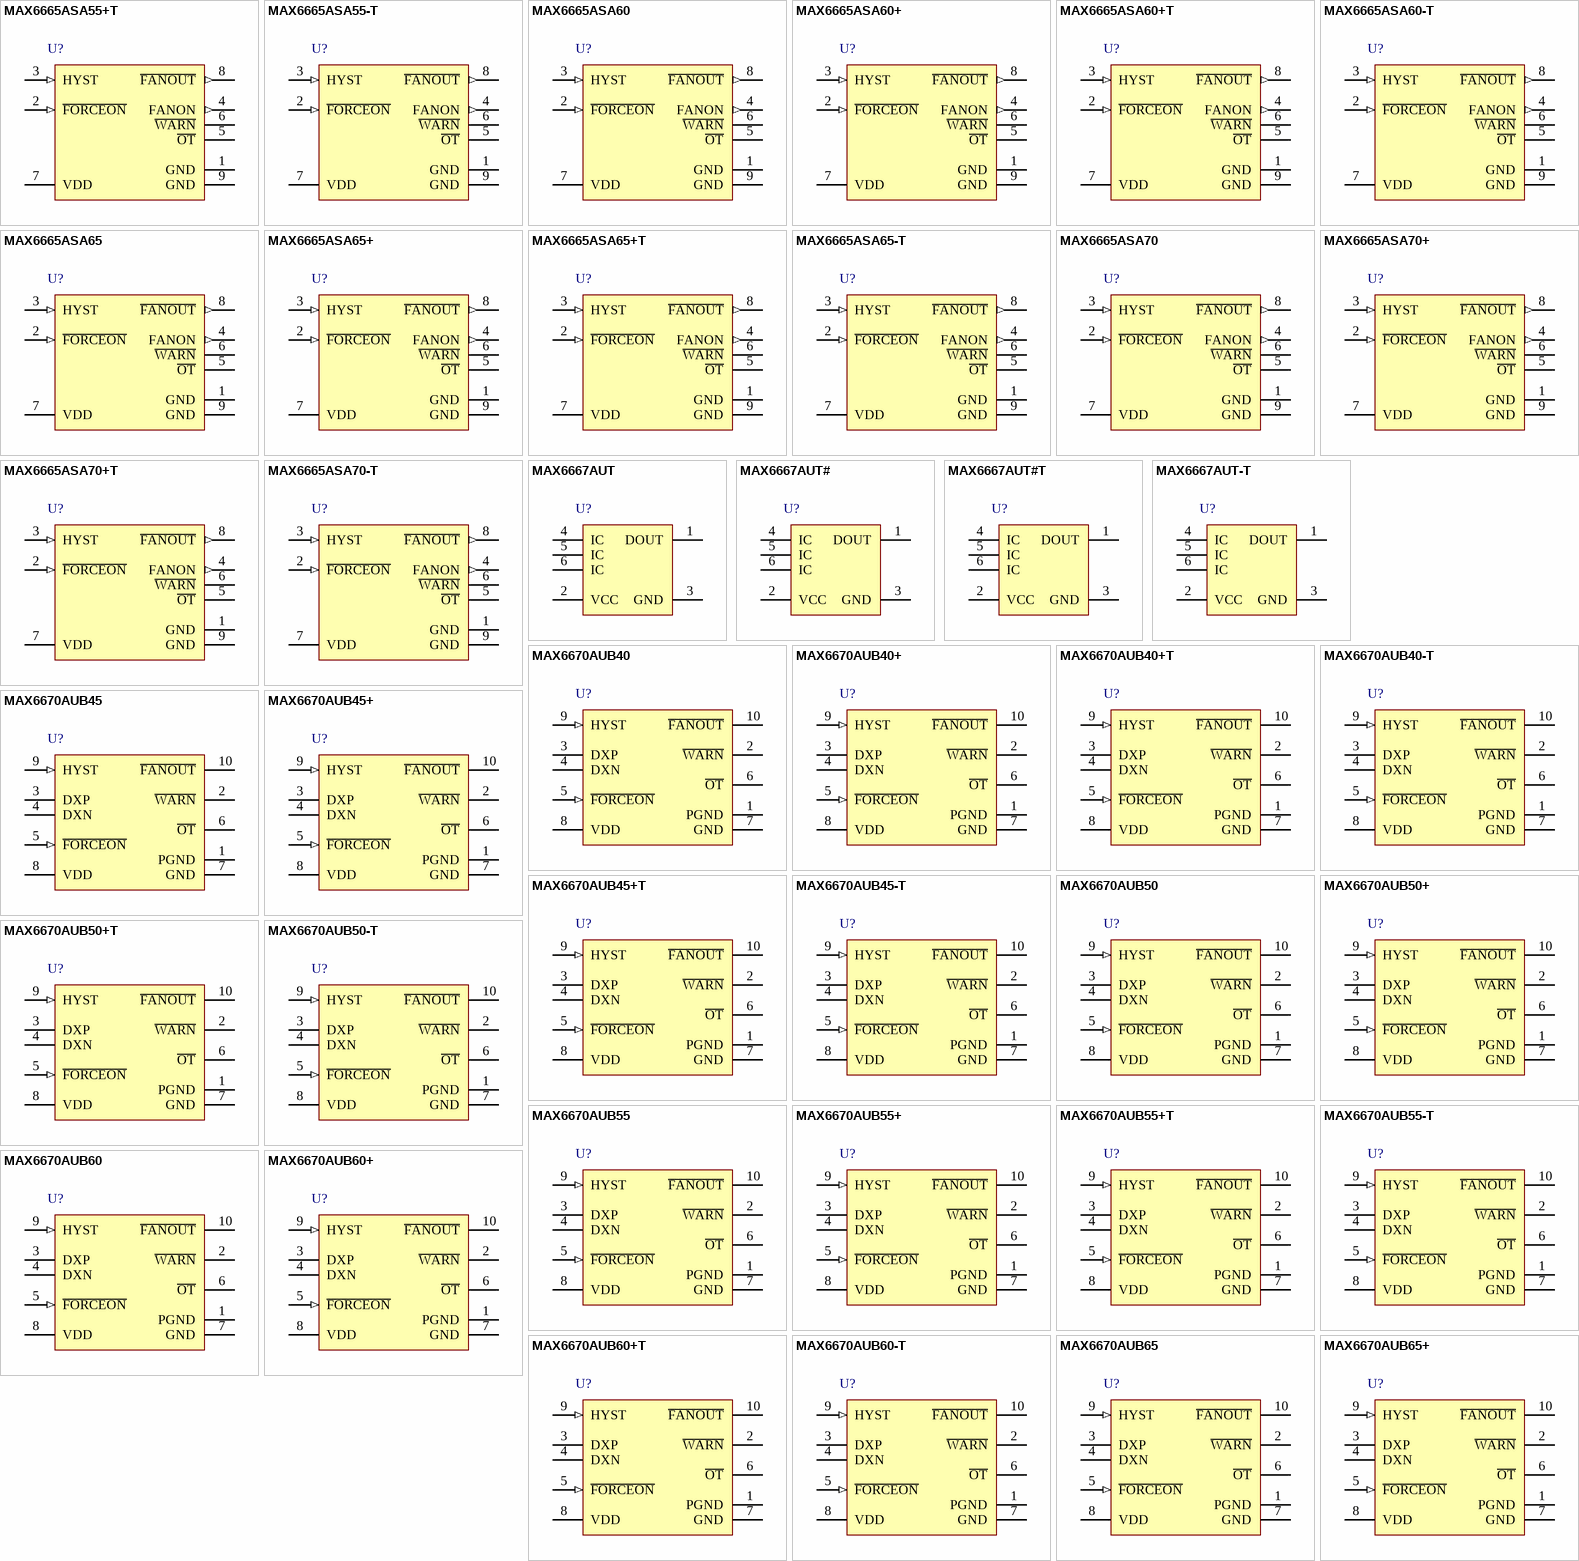
[diagram p22: symbols MAX6665ASA55+T to MAX6670AUB65+]

## MAX6665ASA55+T
designator U?
Fan Controller / Driver with Factory-Programmed Temperature Thresholds, -40 to 125 degC, 8-Pin SOIC (S8E+14), Pb-Free, Tape and Reel; Generic Part Number: MAX6665; PartNumber: MAX6665ASA55+T; Fan Cntrl.: Linear; Fan Controller Functions: Temperature Switch/Temperature Comparator; Interface: Logic; DatasheetVersion: Rev. 0; PackageVersion: Rev. E, 01/2009; PackageReference: S8E+14; PackageDescription: 8-Pin Small-Outline IC, Narrow, Body 3.9 x 4.89 mm, Exposed Pad 2.945 x 2.26 mm, Pitch 1.27 mm; Supplier 1: Digi-Key; Supplier Part Number 1: MAX6665ASA55+T-ND; Supplier 2: Mouser; Supplier Part Number 2: 700-MAX6665ASA55T; Packing: Tape and Reel; Mounting Technology: Surface Mount; Code_JEDEC: MS-012; ComponentLink1Description: Manufacturer URL; ComponentLink1URL: http://www.maximintegrated.com/; ComponentLink2Description: Datasheet; ComponentLink2URL: http://datasheets.maximintegrated.com/en/ds/MAX6665.pdf; ComponentLink3Description: Package Specification; ComponentLink3URL: http://pdfserv.maximintegrated.com/package_dwgs/21-0111.PDF
footprint MAXM-S8E+14_N (SOIC, 8-Leads, Body 4.89x3.9mm, Pitch 1.27mm, Thermal Pad 2.945x2.26mm, IPC Medium Density)
footprint MAXM-S8E+14_L (SOIC, 8-Leads, Body 4.89x3.9mm, Pitch 1.27mm, Thermal Pad 2.945x2.26mm, IPC High Density)
footprint MAXM-S8E+14_M (SOIC, 8-Leads, Body 4.89x3.9mm, Pitch 1.27mm, Thermal Pad 2.945x2.26mm, IPC Low Density)
pins: 1 GND (power) "Ground", 2 ~{FORCEON} (in) "Force Fan On Input. Set F\O\R\C\E\O\N\ low to force the fan switch on. Set F\O\R\C\E\O\N\ high for normal operation.", 3 HYST (in) "Three-State Hysteresis Input. Connect HYST to VDD for 8degC, GND for 4degC, and leave HYST unconnected for 1degreesC hysteresis.", 4 FANON (out) "Fan-On Indicator Output. Push-pull output. FANON is high when the fan switch is on. FANON is low when the fan switch is off.", 5 ~{OT} (oc) "Overtemperature Output. Active-low when the temperature is 30degC above the fan threshold. Open-drain output, requires resistive pullup.", 6 ~{WARN} (oc) "Overtemperature Warning Output. Active-low when the temperature is 15degC above the fan threshold. Open-drain output, requires resistive pullup.", 7 VDD (power) "Supply Voltage. Bypass with a 1uF capacitor to GND as close to VDD pin as possible.", 8 ~{FANOUT} (out) "Fan-Switch (Driver) Output. Connect to the low side of a fan.", 9 GND (power) "Ground"

## MAX6665ASA55-T
designator U?
Fan Controller / Driver with Factory-Programmed Temperature Thresholds, -40 to 125 degC, 8-Pin SOIC (S8E-14), Tape and Reel; Generic Part Number: MAX6665; PartNumber: MAX6665ASA55-T; Fan Cntrl.: Linear; Fan Controller Functions: Temperature Switch/Temperature Comparator; Interface: Logic; DatasheetVersion: Rev. 0; PackageVersion: Rev. E, 01/2009; PackageReference: S8E-14; PackageDescription: 8-Pin Small-Outline IC, Narrow, Body 3.9 x 4.89 mm, Exposed Pad 2.945 x 2.26 mm, Pitch 1.27 mm; Supplier 1: Mouser; Supplier Part Number 1: N/A; Packing: Tape and Reel; Mounting Technology: Surface Mount; Code_JEDEC: MS-012; ComponentLink1Description: Manufacturer URL; ComponentLink1URL: http://www.maximintegrated.com/; ComponentLink2Description: Datasheet; ComponentLink2URL: http://datasheets.maximintegrated.com/en/ds/MAX6665.pdf; ComponentLink3Description: Package Specification; ComponentLink3URL: http://pdfserv.maximintegrated.com/package_dwgs/21-0111.PDF
footprint MAXM-S8E-14_N (SOIC, 8-Leads, Body 4.89x3.9mm, Pitch 1.27mm, Thermal Pad 2.945x2.26mm, IPC Medium Density)
footprint MAXM-S8E-14_L (SOIC, 8-Leads, Body 4.89x3.9mm, Pitch 1.27mm, Thermal Pad 2.945x2.26mm, IPC High Density)
footprint MAXM-S8E-14_M (SOIC, 8-Leads, Body 4.89x3.9mm, Pitch 1.27mm, Thermal Pad 2.945x2.26mm, IPC Low Density)
pins: 1 GND (power) "Ground", 2 ~{FORCEON} (in) "Force Fan On Input. Set F\O\R\C\E\O\N\ low to force the fan switch on. Set F\O\R\C\E\O\N\ high for normal operation.", 3 HYST (in) "Three-State Hysteresis Input. Connect HYST to VDD for 8degC, GND for 4degC, and leave HYST unconnected for 1degreesC hysteresis.", 4 FANON (out) "Fan-On Indicator Output. Push-pull output. FANON is high when the fan switch is on. FANON is low when the fan switch is off.", 5 ~{OT} (oc) "Overtemperature Output. Active-low when the temperature is 30degC above the fan threshold. Open-drain output, requires resistive pullup.", 6 ~{WARN} (oc) "Overtemperature Warning Output. Active-low when the temperature is 15degC above the fan threshold. Open-drain output, requires resistive pullup.", 7 VDD (power) "Supply Voltage. Bypass with a 1uF capacitor to GND as close to VDD pin as possible.", 8 ~{FANOUT} (out) "Fan-Switch (Driver) Output. Connect to the low side of a fan.", 9 GND (power) "Ground"

## MAX6665ASA60
designator U?
Fan Controller / Driver with Factory-Programmed Temperature Thresholds, -40 to 125 degC, 8-Pin SOIC (S8E-14); Generic Part Number: MAX6665; PartNumber: MAX6665ASA60; Fan Cntrl.: Linear; Fan Controller Functions: Temperature Switch/Temperature Comparator; Interface: Logic; DatasheetVersion: Rev. 0; PackageVersion: Rev. E, 01/2009; PackageReference: S8E-14; PackageDescription: 8-Pin Small-Outline IC, Narrow, Body 3.9 x 4.89 mm, Exposed Pad 2.945 x 2.26 mm, Pitch 1.27 mm; Supplier 1: Mouser; Supplier Part Number 1: N/A; Mounting Technology: Surface Mount; Code_JEDEC: MS-012; ComponentLink1Description: Manufacturer URL; ComponentLink1URL: http://www.maximintegrated.com/; ComponentLink2Description: Datasheet; ComponentLink2URL: http://datasheets.maximintegrated.com/en/ds/MAX6665.pdf; ComponentLink3Description: Package Specification; ComponentLink3URL: http://pdfserv.maximintegrated.com/package_dwgs/21-0111.PDF
footprint MAXM-S8E-14_N (SOIC, 8-Leads, Body 4.89x3.9mm, Pitch 1.27mm, Thermal Pad 2.945x2.26mm, IPC Medium Density)
footprint MAXM-S8E-14_L (SOIC, 8-Leads, Body 4.89x3.9mm, Pitch 1.27mm, Thermal Pad 2.945x2.26mm, IPC High Density)
footprint MAXM-S8E-14_M (SOIC, 8-Leads, Body 4.89x3.9mm, Pitch 1.27mm, Thermal Pad 2.945x2.26mm, IPC Low Density)
pins: 1 GND (power) "Ground", 2 ~{FORCEON} (in) "Force Fan On Input. Set F\O\R\C\E\O\N\ low to force the fan switch on. Set F\O\R\C\E\O\N\ high for normal operation.", 3 HYST (in) "Three-State Hysteresis Input. Connect HYST to VDD for 8degC, GND for 4degC, and leave HYST unconnected for 1degreesC hysteresis.", 4 FANON (out) "Fan-On Indicator Output. Push-pull output. FANON is high when the fan switch is on. FANON is low when the fan switch is off.", 5 ~{OT} (oc) "Overtemperature Output. Active-low when the temperature is 30degC above the fan threshold. Open-drain output, requires resistive pullup.", 6 ~{WARN} (oc) "Overtemperature Warning Output. Active-low when the temperature is 15degC above the fan threshold. Open-drain output, requires resistive pullup.", 7 VDD (power) "Supply Voltage. Bypass with a 1uF capacitor to GND as close to VDD pin as possible.", 8 ~{FANOUT} (out) "Fan-Switch (Driver) Output. Connect to the low side of a fan.", 9 GND (power) "Ground"

## MAX6665ASA60+
designator U?
Fan Controller / Driver with Factory-Programmed Temperature Thresholds, -40 to 125 degC, 8-Pin SOIC (S8E+14), Pb-Free; Generic Part Number: MAX6665; PartNumber: MAX6665ASA60+; Fan Cntrl.: Linear; Fan Controller Functions: Temperature Switch/Temperature Comparator; Interface: Logic; DatasheetVersion: Rev. 0; PackageVersion: Rev. E, 01/2009; PackageReference: S8E+14; PackageDescription: 8-Pin Small-Outline IC, Narrow, Body 3.9 x 4.89 mm, Exposed Pad 2.945 x 2.26 mm, Pitch 1.27 mm; Supplier 1: Digi-Key; Supplier Part Number 1: MAX6665ASA60+-ND; Supplier 2: Mouser; Supplier Part Number 2: 700-MAX6665ASA60; Mounting Technology: Surface Mount; Code_JEDEC: MS-012; ComponentLink1Description: Manufacturer URL; ComponentLink1URL: http://www.maximintegrated.com/; ComponentLink2Description: Datasheet; ComponentLink2URL: http://datasheets.maximintegrated.com/en/ds/MAX6665.pdf; ComponentLink3Description: Package Specification; ComponentLink3URL: http://pdfserv.maximintegrated.com/package_dwgs/21-0111.PDF
footprint MAXM-S8E+14_N (SOIC, 8-Leads, Body 4.89x3.9mm, Pitch 1.27mm, Thermal Pad 2.945x2.26mm, IPC Medium Density)
footprint MAXM-S8E+14_L (SOIC, 8-Leads, Body 4.89x3.9mm, Pitch 1.27mm, Thermal Pad 2.945x2.26mm, IPC High Density)
footprint MAXM-S8E+14_M (SOIC, 8-Leads, Body 4.89x3.9mm, Pitch 1.27mm, Thermal Pad 2.945x2.26mm, IPC Low Density)
pins: 1 GND (power) "Ground", 2 ~{FORCEON} (in) "Force Fan On Input. Set F\O\R\C\E\O\N\ low to force the fan switch on. Set F\O\R\C\E\O\N\ high for normal operation.", 3 HYST (in) "Three-State Hysteresis Input. Connect HYST to VDD for 8degC, GND for 4degC, and leave HYST unconnected for 1degreesC hysteresis.", 4 FANON (out) "Fan-On Indicator Output. Push-pull output. FANON is high when the fan switch is on. FANON is low when the fan switch is off.", 5 ~{OT} (oc) "Overtemperature Output. Active-low when the temperature is 30degC above the fan threshold. Open-drain output, requires resistive pullup.", 6 ~{WARN} (oc) "Overtemperature Warning Output. Active-low when the temperature is 15degC above the fan threshold. Open-drain output, requires resistive pullup.", 7 VDD (power) "Supply Voltage. Bypass with a 1uF capacitor to GND as close to VDD pin as possible.", 8 ~{FANOUT} (out) "Fan-Switch (Driver) Output. Connect to the low side of a fan.", 9 GND (power) "Ground"

## MAX6665ASA60+T
designator U?
Fan Controller / Driver with Factory-Programmed Temperature Thresholds, -40 to 125 degC, 8-Pin SOIC (S8E+14), Pb-Free, Tape and Reel; Generic Part Number: MAX6665; PartNumber: MAX6665ASA60+T; Fan Cntrl.: Linear; Fan Controller Functions: Temperature Switch/Temperature Comparator; Interface: Logic; DatasheetVersion: Rev. 0; PackageVersion: Rev. E, 01/2009; PackageReference: S8E+14; PackageDescription: 8-Pin Small-Outline IC, Narrow, Body 3.9 x 4.89 mm, Exposed Pad 2.945 x 2.26 mm, Pitch 1.27 mm; Supplier 1: Digi-Key; Supplier Part Number 1: MAX6665ASA60+T-ND; Supplier 2: Mouser; Supplier Part Number 2: 700-MAX6665ASA60T; Packing: Tape and Reel; Mounting Technology: Surface Mount; Code_JEDEC: MS-012; ComponentLink1Description: Manufacturer URL; ComponentLink1URL: http://www.maximintegrated.com/; ComponentLink2Description: Datasheet; ComponentLink2URL: http://datasheets.maximintegrated.com/en/ds/MAX6665.pdf; ComponentLink3Description: Package Specification; ComponentLink3URL: http://pdfserv.maximintegrated.com/package_dwgs/21-0111.PDF
footprint MAXM-S8E+14_N (SOIC, 8-Leads, Body 4.89x3.9mm, Pitch 1.27mm, Thermal Pad 2.945x2.26mm, IPC Medium Density)
footprint MAXM-S8E+14_L (SOIC, 8-Leads, Body 4.89x3.9mm, Pitch 1.27mm, Thermal Pad 2.945x2.26mm, IPC High Density)
footprint MAXM-S8E+14_M (SOIC, 8-Leads, Body 4.89x3.9mm, Pitch 1.27mm, Thermal Pad 2.945x2.26mm, IPC Low Density)
pins: 1 GND (power) "Ground", 2 ~{FORCEON} (in) "Force Fan On Input. Set F\O\R\C\E\O\N\ low to force the fan switch on. Set F\O\R\C\E\O\N\ high for normal operation.", 3 HYST (in) "Three-State Hysteresis Input. Connect HYST to VDD for 8degC, GND for 4degC, and leave HYST unconnected for 1degreesC hysteresis.", 4 FANON (out) "Fan-On Indicator Output. Push-pull output. FANON is high when the fan switch is on. FANON is low when the fan switch is off.", 5 ~{OT} (oc) "Overtemperature Output. Active-low when the temperature is 30degC above the fan threshold. Open-drain output, requires resistive pullup.", 6 ~{WARN} (oc) "Overtemperature Warning Output. Active-low when the temperature is 15degC above the fan threshold. Open-drain output, requires resistive pullup.", 7 VDD (power) "Supply Voltage. Bypass with a 1uF capacitor to GND as close to VDD pin as possible.", 8 ~{FANOUT} (out) "Fan-Switch (Driver) Output. Connect to the low side of a fan.", 9 GND (power) "Ground"

## MAX6665ASA60-T
designator U?
Fan Controller / Driver with Factory-Programmed Temperature Thresholds, -40 to 125 degC, 8-Pin SOIC (S8E-14), Tape and Reel; Generic Part Number: MAX6665; PartNumber: MAX6665ASA60-T; Fan Cntrl.: Linear; Fan Controller Functions: Temperature Switch/Temperature Comparator; Interface: Logic; DatasheetVersion: Rev. 0; PackageVersion: Rev. E, 01/2009; PackageReference: S8E-14; PackageDescription: 8-Pin Small-Outline IC, Narrow, Body 3.9 x 4.89 mm, Exposed Pad 2.945 x 2.26 mm, Pitch 1.27 mm; Supplier 1: Mouser; Supplier Part Number 1: N/A; Packing: Tape and Reel; Mounting Technology: Surface Mount; Code_JEDEC: MS-012; ComponentLink1Description: Manufacturer URL; ComponentLink1URL: http://www.maximintegrated.com/; ComponentLink2Description: Datasheet; ComponentLink2URL: http://datasheets.maximintegrated.com/en/ds/MAX6665.pdf; ComponentLink3Description: Package Specification; ComponentLink3URL: http://pdfserv.maximintegrated.com/package_dwgs/21-0111.PDF
footprint MAXM-S8E-14_N (SOIC, 8-Leads, Body 4.89x3.9mm, Pitch 1.27mm, Thermal Pad 2.945x2.26mm, IPC Medium Density)
footprint MAXM-S8E-14_L (SOIC, 8-Leads, Body 4.89x3.9mm, Pitch 1.27mm, Thermal Pad 2.945x2.26mm, IPC High Density)
footprint MAXM-S8E-14_M (SOIC, 8-Leads, Body 4.89x3.9mm, Pitch 1.27mm, Thermal Pad 2.945x2.26mm, IPC Low Density)
pins: 1 GND (power) "Ground", 2 ~{FORCEON} (in) "Force Fan On Input. Set F\O\R\C\E\O\N\ low to force the fan switch on. Set F\O\R\C\E\O\N\ high for normal operation.", 3 HYST (in) "Three-State Hysteresis Input. Connect HYST to VDD for 8degC, GND for 4degC, and leave HYST unconnected for 1degreesC hysteresis.", 4 FANON (out) "Fan-On Indicator Output. Push-pull output. FANON is high when the fan switch is on. FANON is low when the fan switch is off.", 5 ~{OT} (oc) "Overtemperature Output. Active-low when the temperature is 30degC above the fan threshold. Open-drain output, requires resistive pullup.", 6 ~{WARN} (oc) "Overtemperature Warning Output. Active-low when the temperature is 15degC above the fan threshold. Open-drain output, requires resistive pullup.", 7 VDD (power) "Supply Voltage. Bypass with a 1uF capacitor to GND as close to VDD pin as possible.", 8 ~{FANOUT} (out) "Fan-Switch (Driver) Output. Connect to the low side of a fan.", 9 GND (power) "Ground"

## MAX6665ASA65
designator U?
Fan Controller / Driver with Factory-Programmed Temperature Thresholds, -40 to 125 degC, 8-Pin SOIC (S8E-14); Generic Part Number: MAX6665; PartNumber: MAX6665ASA65; Fan Cntrl.: Linear; Fan Controller Functions: Temperature Switch/Temperature Comparator; Interface: Logic; DatasheetVersion: Rev. 0; PackageVersion: Rev. E, 01/2009; PackageReference: S8E-14; PackageDescription: 8-Pin Small-Outline IC, Narrow, Body 3.9 x 4.89 mm, Exposed Pad 2.945 x 2.26 mm, Pitch 1.27 mm; Supplier 1: Mouser; Supplier Part Number 1: N/A; Mounting Technology: Surface Mount; Code_JEDEC: MS-012; ComponentLink1Description: Manufacturer URL; ComponentLink1URL: http://www.maximintegrated.com/; ComponentLink2Description: Datasheet; ComponentLink2URL: http://datasheets.maximintegrated.com/en/ds/MAX6665.pdf; ComponentLink3Description: Package Specification; ComponentLink3URL: http://pdfserv.maximintegrated.com/package_dwgs/21-0111.PDF
footprint MAXM-S8E-14_N (SOIC, 8-Leads, Body 4.89x3.9mm, Pitch 1.27mm, Thermal Pad 2.945x2.26mm, IPC Medium Density)
footprint MAXM-S8E-14_L (SOIC, 8-Leads, Body 4.89x3.9mm, Pitch 1.27mm, Thermal Pad 2.945x2.26mm, IPC High Density)
footprint MAXM-S8E-14_M (SOIC, 8-Leads, Body 4.89x3.9mm, Pitch 1.27mm, Thermal Pad 2.945x2.26mm, IPC Low Density)
pins: 1 GND (power) "Ground", 2 ~{FORCEON} (in) "Force Fan On Input. Set F\O\R\C\E\O\N\ low to force the fan switch on. Set F\O\R\C\E\O\N\ high for normal operation.", 3 HYST (in) "Three-State Hysteresis Input. Connect HYST to VDD for 8degC, GND for 4degC, and leave HYST unconnected for 1degreesC hysteresis.", 4 FANON (out) "Fan-On Indicator Output. Push-pull output. FANON is high when the fan switch is on. FANON is low when the fan switch is off.", 5 ~{OT} (oc) "Overtemperature Output. Active-low when the temperature is 30degC above the fan threshold. Open-drain output, requires resistive pullup.", 6 ~{WARN} (oc) "Overtemperature Warning Output. Active-low when the temperature is 15degC above the fan threshold. Open-drain output, requires resistive pullup.", 7 VDD (power) "Supply Voltage. Bypass with a 1uF capacitor to GND as close to VDD pin as possible.", 8 ~{FANOUT} (out) "Fan-Switch (Driver) Output. Connect to the low side of a fan.", 9 GND (power) "Ground"

## MAX6665ASA65+
designator U?
Fan Controller / Driver with Factory-Programmed Temperature Thresholds, -40 to 125 degC, 8-Pin SOIC (S8E+14), Pb-Free; Generic Part Number: MAX6665; PartNumber: MAX6665ASA65+; Fan Cntrl.: Linear; Fan Controller Functions: Temperature Switch/Temperature Comparator; Interface: Logic; DatasheetVersion: Rev. 0; PackageVersion: Rev. E, 01/2009; PackageReference: S8E+14; PackageDescription: 8-Pin Small-Outline IC, Narrow, Body 3.9 x 4.89 mm, Exposed Pad 2.945 x 2.26 mm, Pitch 1.27 mm; Supplier 1: Digi-Key; Supplier Part Number 1: MAX6665ASA65+-ND; Supplier 2: Mouser; Supplier Part Number 2: 700-MAX6665ASA65; Mounting Technology: Surface Mount; Code_JEDEC: MS-012; ComponentLink1Description: Manufacturer URL; ComponentLink1URL: http://www.maximintegrated.com/; ComponentLink2Description: Datasheet; ComponentLink2URL: http://datasheets.maximintegrated.com/en/ds/MAX6665.pdf; ComponentLink3Description: Package Specification; ComponentLink3URL: http://pdfserv.maximintegrated.com/package_dwgs/21-0111.PDF
footprint MAXM-S8E+14_N (SOIC, 8-Leads, Body 4.89x3.9mm, Pitch 1.27mm, Thermal Pad 2.945x2.26mm, IPC Medium Density)
footprint MAXM-S8E+14_L (SOIC, 8-Leads, Body 4.89x3.9mm, Pitch 1.27mm, Thermal Pad 2.945x2.26mm, IPC High Density)
footprint MAXM-S8E+14_M (SOIC, 8-Leads, Body 4.89x3.9mm, Pitch 1.27mm, Thermal Pad 2.945x2.26mm, IPC Low Density)
pins: 1 GND (power) "Ground", 2 ~{FORCEON} (in) "Force Fan On Input. Set F\O\R\C\E\O\N\ low to force the fan switch on. Set F\O\R\C\E\O\N\ high for normal operation.", 3 HYST (in) "Three-State Hysteresis Input. Connect HYST to VDD for 8degC, GND for 4degC, and leave HYST unconnected for 1degreesC hysteresis.", 4 FANON (out) "Fan-On Indicator Output. Push-pull output. FANON is high when the fan switch is on. FANON is low when the fan switch is off.", 5 ~{OT} (oc) "Overtemperature Output. Active-low when the temperature is 30degC above the fan threshold. Open-drain output, requires resistive pullup.", 6 ~{WARN} (oc) "Overtemperature Warning Output. Active-low when the temperature is 15degC above the fan threshold. Open-drain output, requires resistive pullup.", 7 VDD (power) "Supply Voltage. Bypass with a 1uF capacitor to GND as close to VDD pin as possible.", 8 ~{FANOUT} (out) "Fan-Switch (Driver) Output. Connect to the low side of a fan.", 9 GND (power) "Ground"

## MAX6665ASA65+T
designator U?
Fan Controller / Driver with Factory-Programmed Temperature Thresholds, -40 to 125 degC, 8-Pin SOIC (S8E+14), Pb-Free, Tape and Reel; Generic Part Number: MAX6665; PartNumber: MAX6665ASA65+T; Fan Cntrl.: Linear; Fan Controller Functions: Temperature Switch/Temperature Comparator; Interface: Logic; DatasheetVersion: Rev. 0; PackageVersion: Rev. E, 01/2009; PackageReference: S8E+14; PackageDescription: 8-Pin Small-Outline IC, Narrow, Body 3.9 x 4.89 mm, Exposed Pad 2.945 x 2.26 mm, Pitch 1.27 mm; Supplier 1: Digi-Key; Supplier Part Number 1: MAX6665ASA65+T-ND; Supplier 2: Mouser; Supplier Part Number 2: 700-MAX6665ASA65T; Packing: Tape and Reel; Mounting Technology: Surface Mount; Code_JEDEC: MS-012; ComponentLink1Description: Manufacturer URL; ComponentLink1URL: http://www.maximintegrated.com/; ComponentLink2Description: Datasheet; ComponentLink2URL: http://datasheets.maximintegrated.com/en/ds/MAX6665.pdf; ComponentLink3Description: Package Specification; ComponentLink3URL: http://pdfserv.maximintegrated.com/package_dwgs/21-0111.PDF
footprint MAXM-S8E+14_N (SOIC, 8-Leads, Body 4.89x3.9mm, Pitch 1.27mm, Thermal Pad 2.945x2.26mm, IPC Medium Density)
footprint MAXM-S8E+14_L (SOIC, 8-Leads, Body 4.89x3.9mm, Pitch 1.27mm, Thermal Pad 2.945x2.26mm, IPC High Density)
footprint MAXM-S8E+14_M (SOIC, 8-Leads, Body 4.89x3.9mm, Pitch 1.27mm, Thermal Pad 2.945x2.26mm, IPC Low Density)
pins: 1 GND (power) "Ground", 2 ~{FORCEON} (in) "Force Fan On Input. Set F\O\R\C\E\O\N\ low to force the fan switch on. Set F\O\R\C\E\O\N\ high for normal operation.", 3 HYST (in) "Three-State Hysteresis Input. Connect HYST to VDD for 8degC, GND for 4degC, and leave HYST unconnected for 1degreesC hysteresis.", 4 FANON (out) "Fan-On Indicator Output. Push-pull output. FANON is high when the fan switch is on. FANON is low when the fan switch is off.", 5 ~{OT} (oc) "Overtemperature Output. Active-low when the temperature is 30degC above the fan threshold. Open-drain output, requires resistive pullup.", 6 ~{WARN} (oc) "Overtemperature Warning Output. Active-low when the temperature is 15degC above the fan threshold. Open-drain output, requires resistive pullup.", 7 VDD (power) "Supply Voltage. Bypass with a 1uF capacitor to GND as close to VDD pin as possible.", 8 ~{FANOUT} (out) "Fan-Switch (Driver) Output. Connect to the low side of a fan.", 9 GND (power) "Ground"